# Altium integrated library FUSB302BMPX.IntLib: 1 symbol
Pins are listed as number, name and electrical type; pins without a type are passive.

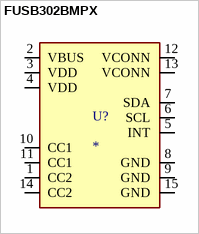
[diagram p0: symbol FUSB302BMPX]

## FUSB302BMPX
designator U?
USB Controller USB 3.1 USB Interface 14-MLP (2.5x2.5); MF: ON Semiconductor; MP: FUSB302BMPX; SnapEDA_Link: https://www.snapeda.com/parts/FUSB302BMPX/Onsemi/view-part/?ref=snap; Package: WQFN-14 ON Semiconductor; Value: *; Check_prices: https://www.snapeda.com/parts/FUSB302BMPX/Onsemi/view-part/?ref=eda
footprint MLP-14
pins: 1 CC2 (io), 2 VBUS (io), 3 VDD (io), 4 VDD (io), 5 INT (io), 6 SCL (io), 7 SDA (io), 8 GND (io), 9 GND (io), 10 CC1 (io), 11 CC1 (io), 12 VCONN (io), 13 VCONN (io), 14 CC2 (io), 15 GND (io)